# Altium schematic symbol library DAC.SchLib: 49 symbols
Pins are listed as number, name and electrical type; pins without a type are passive.

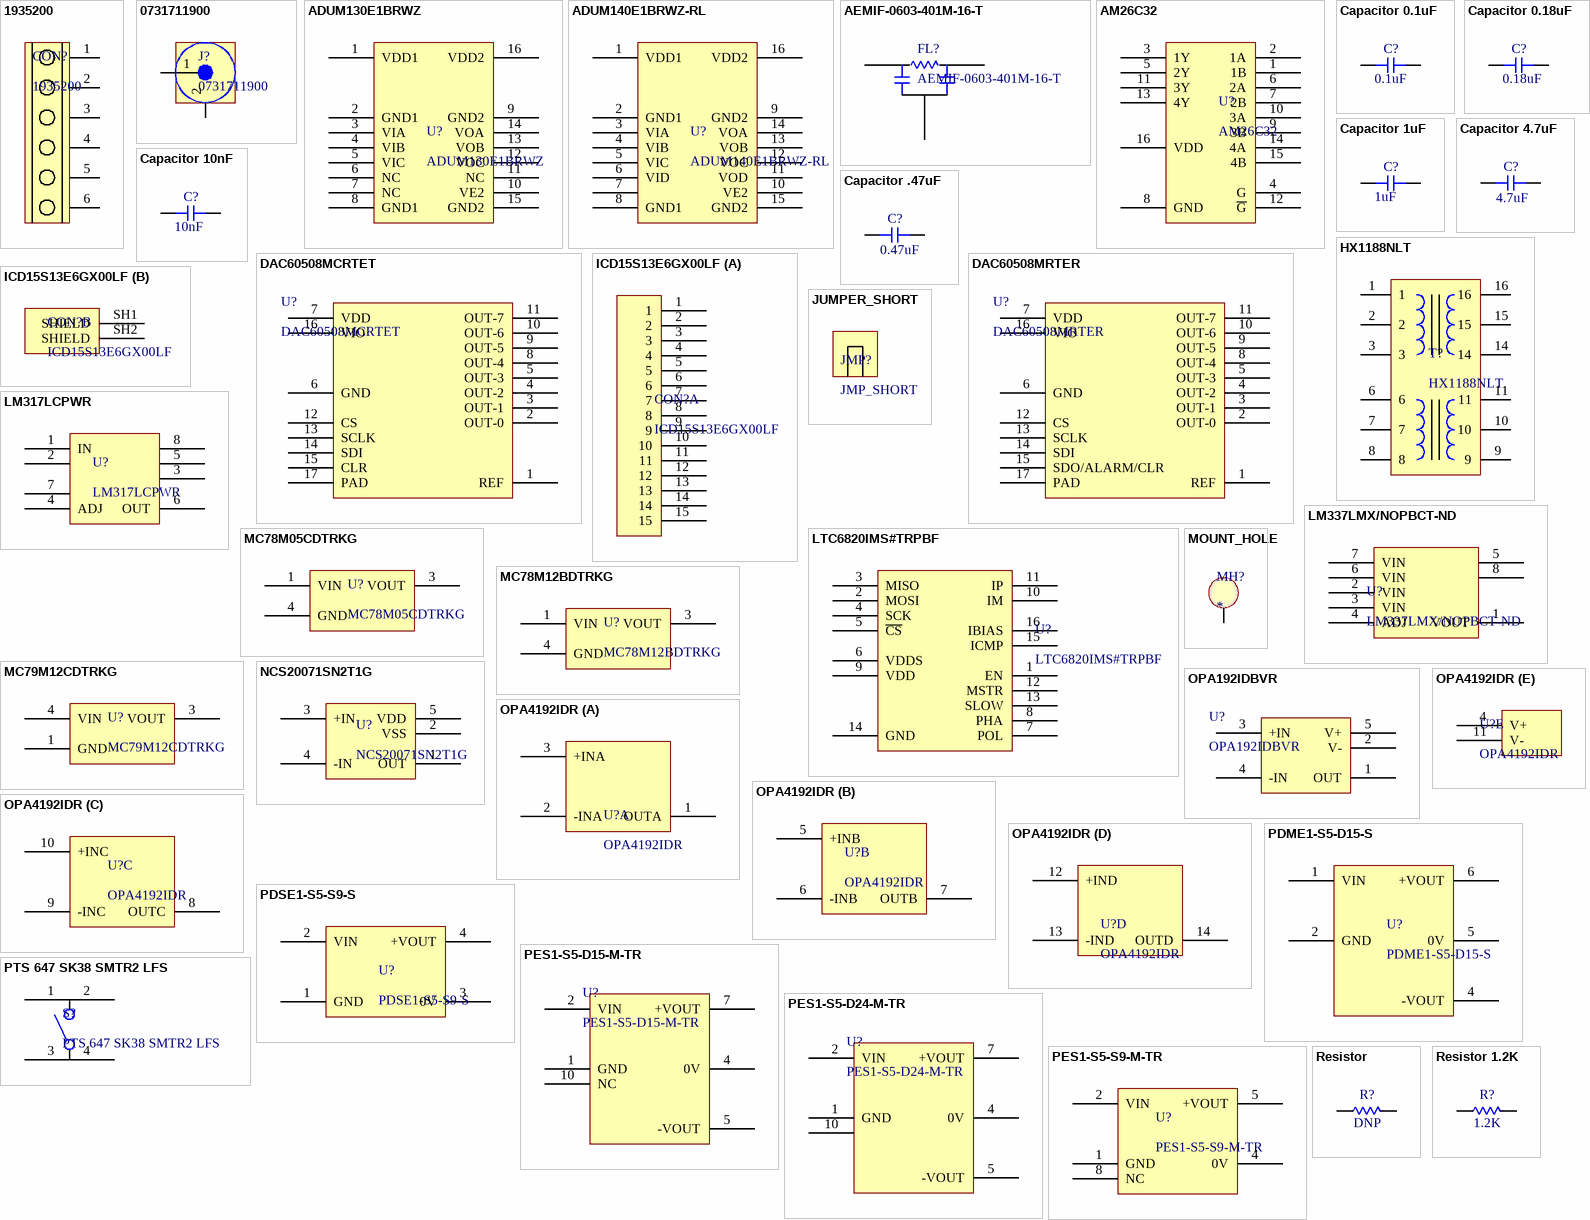
[diagram p0: symbols 1935200 to Resistor 1.2K]

## 1935200
designator CON?
6 Position Wire to Board Terminal Block Horizontal with Board 0.197" (5.00mm) Through Hole; Supplier 1: Digi-Key; Supplier Part Number 1: 277-1581-ND
footprint 1935200
pins: 1 12, 2 13, 3, 4, 5, 6

## 0731711900
designator J?
CONN BNC JACK STR 75 OHM PCB; Supplier 1: Digi-Key; Supplier Part Number 1: WM5517-ND
footprint 0731711900 (CONN BNC JACK STR 75 OHM PCB)
pins: 1 ANLG, 2 GND

## ADUM130E1BRWZ
designator U?
General Purpose Digital Isolator 3750Vrms 3 Channel 150Mbps 75kV/µs CMTI 16-SOIC (0.295", 7.50mm Width); Supplier 1: Digi-Key; Supplier Part Number 1: ADUM130E1BRWZ-ND
footprint SOIC127P1030X265-16N (SOIC, 16-Leads, Body 10.30x7.50mm, Pitch 1.27mm, IPC Medium Density)
pins: 1 VDD1, 2 GND1, 3 VIA, 4 VIB, 5 VIC, 6 NC, 7 NC, 8 GND1, 9 GND2, 10 VE2, 11 NC, 12 VOC, 13 VOB, 14 VOA, 15 GND2, 16 VDD2

## ADUM140E1BRWZ-RL
designator U?
General Purpose Digital Isolator 3750Vrms 4 Channel 150Mbps 75kV/µs CMTI 16-SOIC (0.295", 7.50mm Width); Supplier 1: Digi-Key; Supplier Part Number 1: ADUM140E1BRWZ-RLCT-ND
footprint SOIC127P1030X265-16N (SOIC, 16-Leads, Body 10.30x7.50mm, Pitch 1.27mm, IPC Medium Density)
pins: 1 VDD1, 2 GND1, 3 VIA, 4 VIB, 5 VIC, 6 VID, 7, 8 GND1, 9 GND2, 10 VE2, 11 VOD, 12 VOC, 13 VOB, 14 VOA, 15 GND2, 16 VDD2

## AEMIF-0603-401M-16-T
designator FL?
RC (Pi) EMI Filter 2nd Order Low Pass 1 Channel R = 0.8Ohms 300mA 0603 (1608 Metric)
footprint AEMIF-0603-401M-16-T
pins: 1, 2, 3 GND

## AM26C32
designator U?
IC RCVR RS422 QUAD DIFF 16TSSOP; Supplier 1: Digi-Key; Supplier Part Number 1: 296-30088-1-ND
footprint TSOP65P640X120-16N (TSOP, 16-Leads, Body 5.00x4.40mm, Pitch 0.65mm, IPC Medium Density)
pins: 1 1B, 2 1A, 3 1Y, 4 G, 5 2Y, 6 2A, 7 2B, 8 GND, 9 3B, 10 3A, 11 3Y, 12 ~{G}, 13 4Y, 14 4A, 15 4B, 16 VDD

## Capacitor 0.1uF
designator C?, comment value 0.1uF  (hidden comment: CC0603KRX7R8BB104)
0.1µF ±10% 25V Ceramic Capacitor X7R 0603 (1608 Metric); Supplier 1: Digi-Key; Supplier Part Number 1: 311-1341-1-ND
simulation model CAP (Capacitor)
footprint 0603-CAP
pins: 1, 2

## Capacitor 0.18uF
designator C?, comment value 0.18uF  (hidden comment: CC0603KRX7R7BB184)
0.18µF ±10% 16V Ceramic Capacitor X7R 0603 (1608 Metric); Supplier 1: Digi-Key; Supplier Part Number 1: 311-4066-1-ND
simulation model CAP (Capacitor)
footprint 0603-CAP
pins: 1, 2

## Capacitor 1uF
designator C?, comment value 1uF  (hidden comment: CL10A105KP8NNNC)
1µF ±10% 10V Ceramic Capacitor X5R 0603 (1608 Metric); Supplier 1: Digi-Key; Supplier Part Number 1: 1276-1182-1-ND
simulation model CAP (Capacitor)
footprint 0603-CAP
pins: 1, 2

## Capacitor 4.7uF
designator C?, comment value 4.7uF  (hidden comment: CL10A475KA8NQNC)
4.7µF ±10% 25V Ceramic Capacitor X5R 0603 (1608 Metric); Supplier 1: Digi-Key; Supplier Part Number 1: 1276-1900-1-ND
simulation model CAP (Capacitor)
footprint 0603-CAP
pins: 1, 2

## Capacitor 10nF
designator C?, comment value 10nF  (hidden comment: CC0603KRX7R9BB103)
10000pF ±10% 50V Ceramic Capacitor X7R 0603 (1608 Metric); Supplier 1: Digi-Key; Supplier Part Number 1: 311-1085-1-ND
simulation model CAP (Capacitor)
footprint 0603-CAP
pins: 1, 2

## Capacitor .47uF
designator C?, comment value 0.47uF  (hidden comment: CL10B474KO8NNNC)
0.47µF ±10% 16V Ceramic Capacitor X7R 0603 (1608 Metric); Supplier 1: Digi-Key; Supplier Part Number 1: 1276-1062-1-ND
simulation model CAP (Capacitor)
footprint 0603-CAP
pins: 1, 2

## DAC60508MCRTET
designator U?
12 Bit Digital to Analog Converter 8 16-WQFN (3x3); Supplier 1: Digi-Key; Supplier Part Number 1: 296-52288-1-ND
footprint QFN50P300X300X80_HS-17N (QFN, 16-Leads, Body 3.00x3.00mm, Pitch 0.50mm, Thermal Pad 0.80x0.80mm, IPC Medium Density)
pins: 1 REF, 2 OUT-0, 3 OUT-1, 4 OUT-2, 5 OUT-3, 6 GND, 7 VDD, 8 OUT-4, 9 OUT-5, 10 OUT-6, 11 OUT-7, 12 CS, 13 SCLK, 14 SDI, 15 CLR, 16 VIO, 17 PAD

## DAC60508MRTER
designator U?
12 Bit Digital to Analog Converter 8 16-WQFN (3x3); Supplier 1: Digi-Key; Supplier Part Number 1: 296-51030-1-ND
footprint QFN50P300X300X80_HS-17N (QFN, 16-Leads, Body 3.00x3.00mm, Pitch 0.50mm, Thermal Pad 0.80x0.80mm, IPC Medium Density)
pins: 1 REF, 2 OUT-0, 3 OUT-1, 4 OUT-2, 5 OUT-3, 6 GND, 7 VDD, 8 OUT-4, 9 OUT-5, 10 OUT-6, 11 OUT-7, 12 CS, 13 SCLK, 14 SDI, 15 SDO/ALARM/CLR, 16 VIO, 17 PAD

## HX1188NLT
designator T?
XFRMR MAGNETIC 1PORT 1:1 10/100; Supplier 1: Digi-Key; Supplier Part Number 1: 553-1536-1-ND
footprint HX1188NLT (XFRMR MAGNETIC 1PORT 1:1 10/100)
pins: 1, 2, 3, 6, 7, 8, 9, 10, 11, 14, 15, 16

## ICD15S13E6GX00LF
designator CON?
15 Position D-Sub, High Density Receptacle, Female Sockets Connector; Supplier Part Number 1: 609-2801-ND; Supplier 1: Digi-Key
footprint ICD15S13E6GX00LF (CONN DSUB HD RCPT 15POS R/A SLDR)
part A pins: 1, 2, 3, 4, 5, 6, 7, 8, 9, 10, 11, 12, 13, 14, 15
part B pins: SH1 SHIELD, SH2 SHIELD

## JUMPER_SHORT
designator JMP?, comment JMP_SHORT  (mechanical)
CONN JUMPER SHORTING .100" GOLD; Supplier 1: Digi-Key; Supplier Part Number 1: S9337-ND

## LM317LCPWR
designator U?
Linear Voltage Regulator IC  1 Output  100mA 8-TSSOP; Supplier 1: Digi-Key; Supplier Part Number 1: 296-17222-1-ND
footprint TSOP65P640X120-8N (TSOP, 8-Leads, Body 3.00x4.40mm, Pitch 0.65mm, IPC Medium Density)
pins: 1 IN, 2, 3, 4 ADJ, 5, 6 OUT, 7, 8

## LM337LMX/NOPBCT-ND
designator U?
Linear Voltage Regulator IC  1 Output  100mA 8-SOIC; Supplier 1: Digi-Key; Supplier Part Number 1: LM337LMX/NOPBCT-ND
footprint SOIC127P600X175-8N (SOIC, 8-Leads, Body 4.91x3.90mm, Pitch 1.27mm, IPC Medium Density)
pins: 1 VOUT, 2 VIN, 3 VIN, 4 ADJ, 5, 6 VIN, 7 VIN, 8

## LTC6820IMS#TRPBF
designator U?
IC INTERFACE SPECIALIZED 16MSOP; Supplier 1: Digi-Key; Supplier Part Number 1: LTC6820IMS#TRPBFCT-ND
footprint TSSOP50P490X110-16N (TSSOP, 16-Leads, Body 4.00x3.00mm, Pitch 0.50mm, IPC Medium Density)
pins: 1 EN, 2 MOSI, 3 MISO, 4 SCK, 5 ~{CS}, 6 VDDS, 7 POL, 8 PHA, 9 VDD, 10 IM, 11 IP, 12 MSTR, 13 SLOW, 14 GND, 15 ICMP, 16 IBIAS

## MC78M05CDTRKG
designator U?
+5V Linear Voltage Regulator IC  1 Output  500mA DPAK; Supplier 1: Digi-Key; Supplier Part Number 1: MC78M05CDTRKGOSCT-ND
footprint DPAK229P991X238-3N (D-PAK, 3-Pads, Body 6.21x6.73mm (max), IPC Medium Density)
pins: 1 VIN, 3 VOUT, 4 GND

## MC78M12BDTRKG
designator U?
+12 Linear Voltage Regulator IC  1 Output  500mA DPAK; Supplier 1: Digi-Key; Supplier Part Number 1: MC78M12BDTRKGOSCT-ND
footprint DPAK229P991X238-3N (D-PAK, 3-Pads, Body 6.21x6.73mm (max), IPC Medium Density)
pins: 1 VIN, 3 VOUT, 4 GND

## MC79M12CDTRKG
designator U?
-12 Linear Voltage Regulator IC  1 Output  500mA DPAK; Supplier 1: Digi-Key; Supplier Part Number 1: MC79M12CDTRKGOSCT-ND
footprint DPAK229P991X238-3N (D-PAK, 3-Pads, Body 6.21x6.73mm (max), IPC Medium Density)
pins: 1 GND, 3 VOUT, 4 VIN

## MOUNT_HOLE
designator MH?  (no BOM)
MOUNTING HOLE
footprint MOUNTING_HOLE
pins: 1

## NCS20071SN2T1G
designator U?
General Purpose Amplifier 1 Circuit Rail-to-Rail 5-TSOP; Supplier 1: Digi-Key; Supplier Part Number 1: NCS20071SN2T1GOSCT-ND
footprint TSOP95P280X110-6N (TSOP, 6-Leads, Body 3.00x1.50mm, Pitch 0.95mm, IPC Medium Density)
pins: 1 OUT, 2 VSS (power), 3 +IN (power), 4 -IN (power), 5 VDD (power)

## OPA192IDBVR
designator U?
General Purpose Amplifier 1 Circuit Rail-to-Rail SOT-23-5T-23-5; Supplier 1: Digi-Key; Supplier Part Number 1: 296-42105-1-ND
footprint SOT95P280X145-5N (SOT23, 5-Leads, Body 2.90x2.80mm, Pitch 0.95mm, IPC Medium Density)
pins: 1 OUT, 2 V- (power), 3 +IN (power), 4 -IN (power), 5 V+ (power)

## OPA4192IDR
designator U?
General Purpose Amplifier 4 Circuit Rail-to-Rail 14-SOIC; Supplier 1: Digi-Key; Supplier Part Number 1: 296-43159-1-ND
footprint SOIC127P600X175-14N (SOIC, 14-Leads, Body 8.65x3.90mm, Pitch 1.27mm, IPC Medium Density)
part A pins: 1 OUTA, 2 -INA, 3 +INA
part B pins: 5 +INB, 6 -INB, 7 OUTB
part C pins: 8 OUTC, 9 -INC, 10 +INC
part D pins: 12 +IND, 13 -IND, 14 OUTD
part E pins: 4 V+, 11 V-

## PDME1-S5-D15-S
designator U?
Isolated Module DC DC Converter 2 Output 15V -15V   34mA, 34mA 4.5V - 5.5V Input; Supplier 1: Digi-Key; Supplier Part Number 1: 102-6323-ND
footprint PDME1-S5-D15-S
pins: 1 VIN, 2 GND, 4 -VOUT, 5 0V, 6 +VOUT

## PDSE1-S5-S9-S
designator U?
Isolated Module DC DC Converter 1 Output 9V    111mA 4.5V - 5.5V Input; Supplier 1: Digi-Key; Supplier Part Number 1: 102-6292-ND
footprint PDSE1-S5-S9-S
pins: 1 GND, 2 VIN, 3 0V, 4 +VOUT

## PES1-S5-D15-M-TR
designator U?
Isolated Module DC DC Converter 2 Output 15V -15V   21mA, 21mA 4.5V - 5.5V Input; Supplier 1: Digi-Key; Supplier Part Number 1: 102-3328-1-ND
footprint CONV_PES1-S5-D24-M
pins: 1 GND, 2 VIN, 4 0V, 5 -VOUT, 7 +VOUT, 10 NC

## PES1-S5-D24-M-TR
designator U?
Isolated Module DC DC Converter 2 Output 24V -24V   21mA, 21mA 4.5V - 5.5V Input; Supplier 1: Digi-Key; Supplier Part Number 1: 102-5769-1-ND
footprint CONV_PES1-S5-D24-M
pins: 1 GND, 2 VIN, 4 0V, 5 -VOUT, 7 +VOUT, 10

## PES1-S5-S9-M-TR
designator U?
Isolated Module DC DC Converter 1 Output 9V    111mA 4.5V - 5.5V Input; Supplier 1: Digi-Key; Supplier Part Number 1: 102-2980-1-ND
footprint CONV_PES1-S5-S9-M
pins: 1 GND, 2 VIN, 4 0V, 5 +VOUT, 8 NC

## PTS 647 SK38 SMTR2 LFS
designator S?
Tactile Switch SPST-NO Top Actuated Surface Mount; Supplier 1: Digi-Key; Supplier Part Number 1: PTS647SK38SMTR2LFSCT-ND
footprint PTS647SK38SMTR2LFSCT-ND
pins: 1, 2, 3, 4

## Resistor
designator R?  value DNP  (hidden comment: *)  (no BOM)
DNP; Supplier 1: Digi-Key
simulation model RES (Resistor)
footprint 0603-RES
pins: 1, 2

## Resistor 1.2K
designator R?, comment value 1.2K  (hidden comment: RC0603FR-071K2L)
1.2 kOhms ±1% 0.1W, 1/10W Chip Resistor 0603 (1608 Metric) Moisture Resistant Thick Film; Supplier 1: Digi-Key; Supplier Part Number 1: 311-1.20KHRCT-ND
simulation model RES (Resistor)
footprint 0603-RES
pins: 1, 2

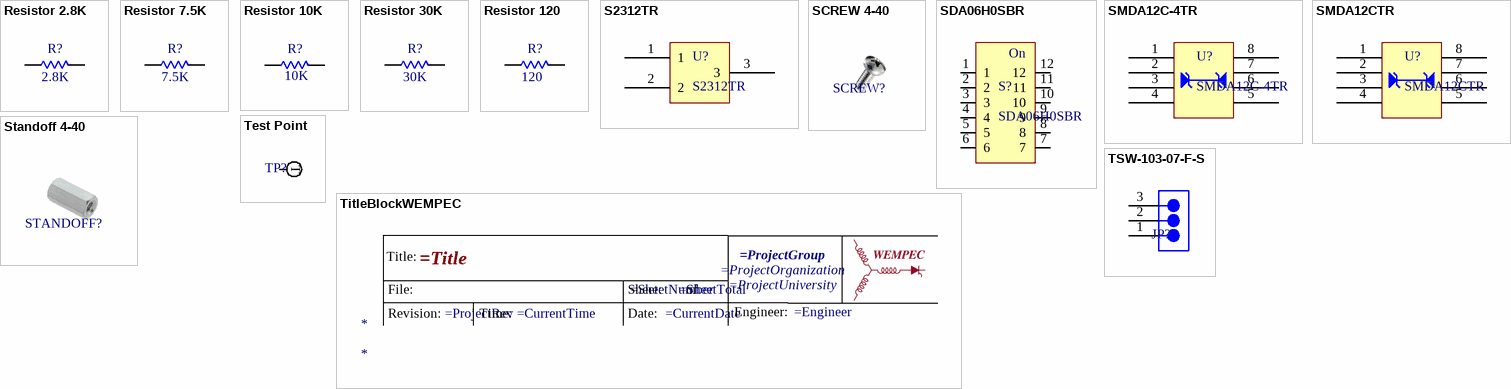
[diagram p1: symbols Resistor 2.8K to TSW-103-07-F-S]

## Resistor 2.8K
designator R?, comment value 2.8K  (hidden comment: RC0603FR-072K8L)
2.8 kOhms ±1% 0.1W, 1/10W Chip Resistor 0603 (1608 Metric) Moisture Resistant Thick Film; Supplier 1: Digi-Key; Supplier Part Number 1: 311-2.80KHRCT-ND
simulation model RES (Resistor)
footprint 0603-RES
pins: 1, 2

## Resistor 7.5K
designator R?, comment value 7.5K  (hidden comment: ERJ-PB3B7501V)
7.5 kOhms ±0.1% 0.2W, 1/5W Chip Resistor 0603 (1608 Metric) Automotive AEC-Q200, Pulse Withstanding Thick Film; Supplier 1: Digi-Key; Supplier Part Number 1: P20072CT-ND
simulation model RES (Resistor)
footprint 0603-RES
pins: 1, 2

## Resistor 10K
designator R?, comment value 10K  (hidden comment: ERJ-PB3B1002V)
10 kOhms ±0.1% 0.2W, 1/5W Chip Resistor 0603 (1608 Metric) Automotive AEC-Q200, Pulse Withstanding Thick Film; Supplier 1: Digi-Key; Supplier Part Number 1: P20086CT-ND
simulation model RES (Resistor)
footprint 0603-RES
pins: 1, 2

## Resistor 30K
designator R?, comment value 30K  (hidden comment: ERJ-PB3B3002V)
30 kOhms ±0.1% 0.2W, 1/5W Chip Resistor 0603 (1608 Metric) Automotive AEC-Q200, Pulse Withstanding Thick Film; Supplier 1: Digi-Key; Supplier Part Number 1: P20138CT-ND
simulation model RES (Resistor)
footprint 0603-RES
pins: 1, 2

## Resistor 120
designator R?, comment value 120  (hidden comment: RC0603FR-07120RL)
120 Ohms ±1% 0.1W, 1/10W Chip Resistor 0603 (1608 Metric) Moisture Resistant Thick Film; Supplier 1: Digi-Key; Supplier Part Number 1: 311-120HRCT-ND
simulation model RES (Resistor)
footprint 0603-RES
pins: 1, 2

## S2312TR
designator U?
19V Clamp 1A (8/20µs) Ipp Tvs Diode Surface Mount SOT-23; Supplier 1: Digi-Key; Supplier Part Number 1: 1655-1507-1-ND
footprint SOT95P240X115-3N (SOT23, 3-Leads, Body 2.90x2.40mm, Pitch 0.95mm, IPC Medium Density)
pins: 1, 2, 3

## SCREW 4-40
designator SCREW?, comment 9900  (value not drawn)  (mechanical)
#4-40 Pan Head Machine Screw Phillips Drive Stainless Steel; Supplier 1: Digi-Key; Supplier Part Number 1: 36-9900-ND

## SDA06H0SBR
designator S?
SWITCH SLIDE DIP SPST 25MA 24V; Supplier 1: Digi-Key; Supplier Part Number 1: CKN9495CT-ND
footprint SDA06H0SBR
pins: 1, 2, 3, 4, 5, 6, 7, 8, 9, 10, 11, 12
text: On

## SMDA12C-4TR
designator U?
19V Clamp 1A (8/20µs) Ipp Tvs Diode Surface Mount 8-SO; Supplier 1: Digi-Key; Supplier Part Number 1: 1655-1650-1-ND
footprint SOIC127P600X175-8N-B (SOIC, 8-Leads, Body 4.90x3.90mm, Pitch 1.27mm, IPC Medium Density)
pins: 1, 2, 3, 4, 5, 6, 7, 8

## SMDA12CTR
designator U?
19V Clamp 1A (8/20µs) Ipp TVS Diode Surface Mount 8-SO. No common node.; Supplier 1: Digi-Key; Supplier Part Number 1: 1655-1701-1-ND
footprint SOIC127P600X175-8N-B (SOIC, 8-Leads, Body 4.90x3.90mm, Pitch 1.27mm, IPC Medium Density)
pins: 1, 2, 3, 4, 5, 6, 7, 8

## Standoff 4-40
designator STANDOFF?, comment 2057-440-AL-7  (value not drawn)  (mechanical)
Hex Standoff Threaded #4-40 Aluminum 0.500" (12.70mm) 1/2"; Supplier 1: Digi-Key; Supplier Part Number 1: 1772-1993-ND

## Test Point
designator TP?  (value not drawn)
Material - Insulation: No Insulation; Supplier Part Number: *; Supplier: *; Footprint: *; Supplier 1: Digi-Key; RoHS: RoHS Compliant; Category: Test and Measurement; Stock 1: 136646; Pricing 1: 1=0.22, 10=0.206, 25=0.1756, 50=0.1536, 100=0.1426, 250=0.12616, 500=0.12068, 1000=0.09874 (USD); Packaging: Cut Tape (CT); Part Status: Active; Type: PC Test Point; Mounting Type: Surface Mount; Color: Natural; Size / Dimension: 0.063" x 0.031" x 0.045" (1.60mm x 0.80mm x 1.15mm); Plating: -; Material - Body: -; ComponentLink1URL: http://www.te.com/commerce/DocumentDelivery/DDEController?Action=srchrtrv&DocNm=1773266&DocType=DS&DocLang=English; ComponentLink1Description: http://www.te.com/commerce/DocumentDelivery/DDEController?Action=srchrtrv&DocNm=1773266&DocType=DS&DocLang=English; Supplier Part Number 1: A106145CT-ND
footprint TEST_POINT (Small test point)
footprint RCU-0C (0603 PROBE PAD)
pins: 1
text: T

## TitleBlockWEMPEC
designator *
text: Title:; File:; Sheet:; of; Engineer:; Revision:; Time:; Date:

## TSW-103-07-F-S
designator JP?  (value not drawn)
Connector Header Through Hole 3 position 0.100" (2.54mm); Supplier 1: Digi-Key; Supplier Part Number 1: SAM8995-ND
footprint PIN_HEADER_1X3
pins: 1 76, 2 75, 3 75